# Altium footprint library CWF1612A100J.PcbLib: 1 footprints
Each footprint in its own frame and in the unit in brackets; x right, y up, seen from the top. Pads: shape width x height; smd on the part's side, far side on the other; paste and mask are expansions set on the pad; w line width, h text height; cw(c..) or ccw(c..) is an arc to the next point about the centre after c.
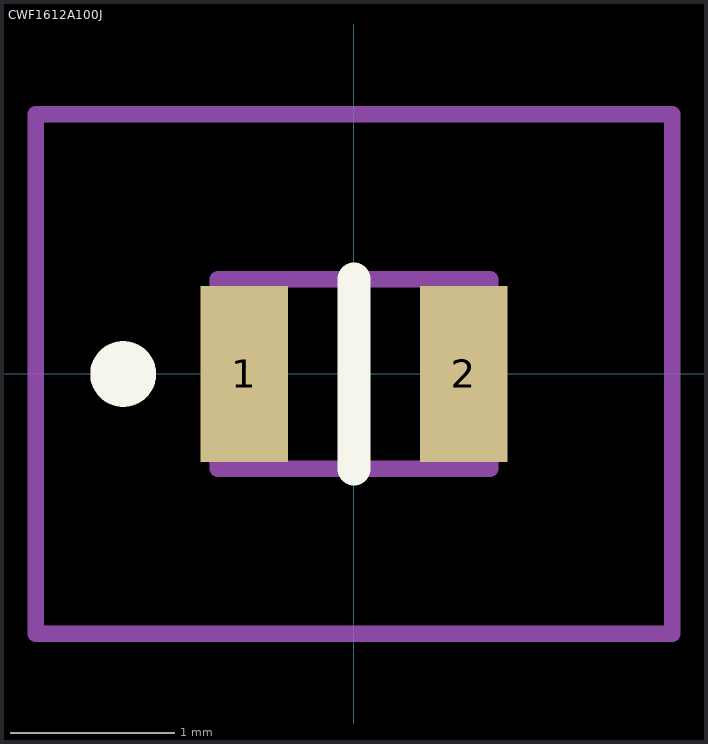
[diagram p0: the footprint, top view; thin cyan lines are the x and y axes]

## CWF1612A100J [mm]
pads (2):
  rect 0.53x1.07 smd: 1(-0.665,0) 2(0.665,0)
Top Overlay:
  lines w0.2: 0,-0.575 0,0.575 ; -1.4,-0.1 cw(c-1.4,0) -1.4,0.1 ; -1.4,-0.1 -1.4,-0.1 ; -1.4,-0.1 ccw(c-1.4,0) -1.4,0.1 ; -1.4,0.1 -1.4,0.1
Mechanical 15:
  lines w0.1: -0.825,-0.575 0.825,-0.575 0.825,0.575 -0.825,0.575 -0.825,-0.575
Mechanical 20:
  lines w0.1: -1.93,-1.575 1.93,-1.575 1.93,1.575 -1.93,1.575 -1.93,-1.575